# EAGLE library part LMV652 (library OP_AMP)
IC OPAMP GP 12MHZ RRO 8VSSOP Datasheet <http://www.ti.com/lit/ds/symlink/lmv651.pdf>
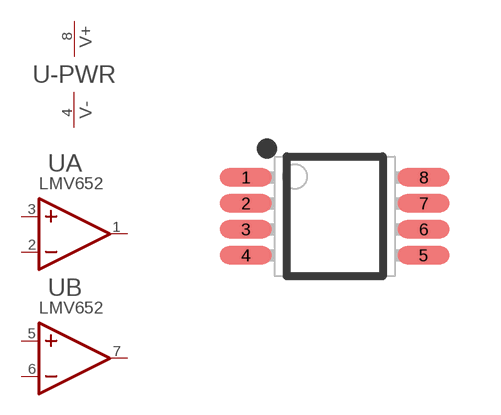
[diagram p2: symbol with the pads of TSSOP-8; footprint TSSOP-8]

Designator prefix U; gates A=OPAMP_NV B=OPAMP_NV -PWR=PWRN_V+-

## LMV652MM (PARTNO: 01-100532-00)  [TSSOP-8]
1  A:OUT  out
2  A:-IN  in
3  A:+IN  in
4  -PWR:V-  pwr
5  B:+IN  in
6  B:-IN  in
7  B:OUT  out
8  -PWR:V+  pwr

## Footprint TSSOP-8 (pad centres in mm)
TSSOP / MSOP / VSSOP, 8-Leads, Body 3.00x3.00mm, Pitch 0.65mm, IPC Medium Density
smd 1.3 x 0.45: 1 -2.225,0.975; 2 -2.225,0.325; 3 -2.225,-0.325; 4 -2.225,-0.975; 5 2.225,-0.975; 6 2.225,-0.325; 7 2.225,0.325; 8 2.225,0.975